# Altium footprint library OJ-SH.PcbLib: 1 footprints
Each footprint in its own frame and in the unit in brackets; x right, y up, seen from the top. Pads: shape width x height; smd on the part's side, far side on the other; paste and mask are expansions set on the pad; w line width, h text height; cw(c..) or ccw(c..) is an arc to the next point about the centre after c.
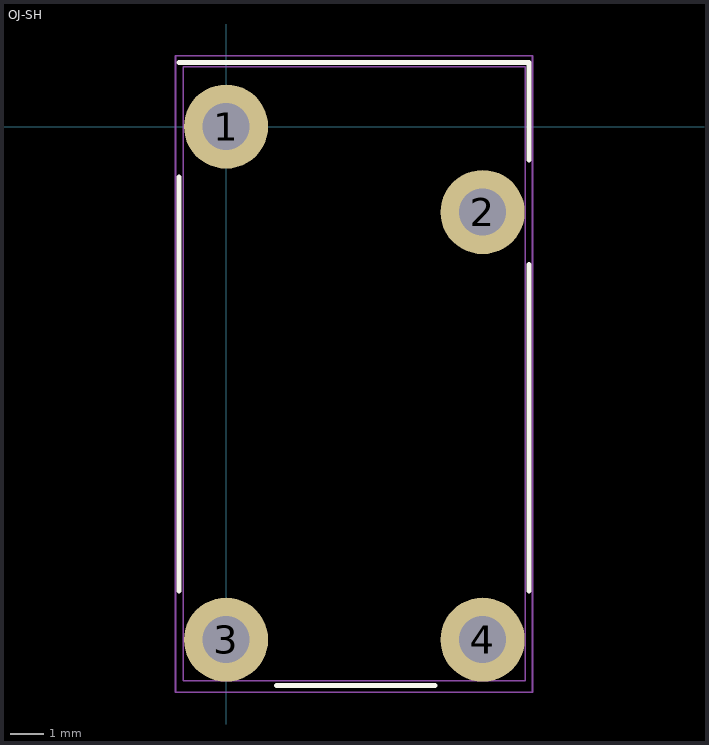
[diagram p0: the footprint, top view; thin cyan lines are the x and y axes]

## OJ-SH [mm]
pads (4):
  round 2.5 hole 1.4 mask+0.05: 1(0,0) 2(7.62,-2.54) 3(0,-15.24) 4(7.62,-15.24)
Top Overlay:
  lines w0.15: -1.4,-13.8 -1.4,-1.5 ; -1.4,1.9 9,1.9 9,-1 ; 1.5,-16.6 6.2,-16.6 ; 9,-13.8 9,-4.1
Top Assembly:
  lines w0.05: -1.27,-16.459 -1.27,1.778 8.89,1.778 8.89,-16.459 -1.27,-16.459
Top Courtyard:
  lines w0.05: -1.5,-16.8 -1.5,2.1 9.1,2.1 9.1,-16.8 -1.5,-16.8
3D body "c-1461405-3-c3-3d.stp": height 14.9, standoff -3.8, extent -1.29,-16.466 8.91,1.734